# Altium schematic symbol library ATMEGA64M1_QFP.Schlib: 1 symbol
Pins are listed as number, name and electrical type; pins without a type are passive.

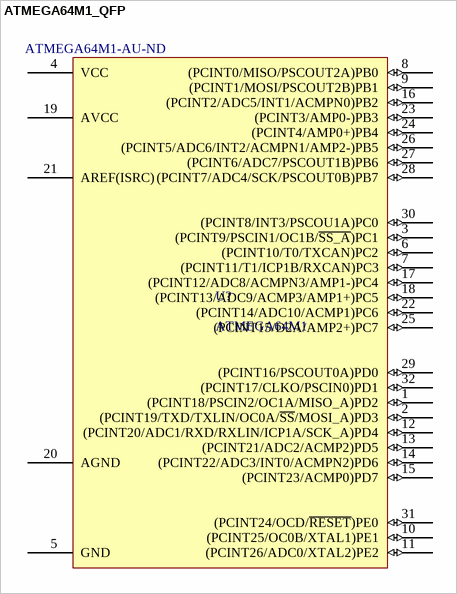
[diagram p0: symbol ATMEGA64M1_QFP]

## ATMEGA64M1_QFP
designator U?, comment ATMEGA64M1  Supplier Part Number 1: ATMEGA64M1-AU-ND
Atmel 8-bit AVR microcontroller.; Supplier 1: Digi-Key
footprint QFP80P900X900X120-32 (QFN + Pitch P + Body With X Body Length X Height - #Pins)
pins: 1 (PCINT18/PSCIN2/OC1A/MISO_A)PD2 (io), 2 (PCINT19/TXD/TXLIN/OC0A/~{SS}/MOSI_A)PD3 (io), 3 (PCINT9/PSCIN1/OC1B/~{SS_A})PC1 (io), 4 VCC (power), 5 GND (power), 6 (PCINT10/T0/TXCAN)PC2 (io), 7 (PCINT11/T1/ICP1B/RXCAN)PC3 (io), 8 (PCINT0/MISO/PSCOUT2A)PB0 (io), 9 (PCINT1/MOSI/PSCOUT2B)PB1 (io), 10 (PCINT25/OC0B/XTAL1)PE1 (io), 11 (PCINT26/ADC0/XTAL2)PE2 (io), 12 (PCINT20/ADC1/RXD/RXLIN/ICP1A/SCK_A)PD4 (io), 13 (PCINT21/ADC2/ACMP2)PD5 (io), 14 (PCINT22/ADC3/INT0/ACMPN2)PD6 (io), 15 (PCINT23/ACMP0)PD7 (io), 16 (PCINT2/ADC5/INT1/ACMPN0)PB2 (io), 17 (PCINT12/ADC8/ACMPN3/AMP1-)PC4 (io), 18 (PCINT13/ADC9/ACMP3/AMP1+)PC5 (io), 19 AVCC (power), 20 AGND (power), 21 AREF(ISRC) (power), 22 (PCINT14/ADC10/ACMP1)PC6 (io), 23 (PCINT3/AMP0-)PB3 (io), 24 (PCINT4/AMP0+)PB4 (io), 25 (PCINT15/D2A/AMP2+)PC7 (io), 26 (PCINT5/ADC6/INT2/ACMPN1/AMP2-)PB5 (io), 27 (PCINT6/ADC7/PSCOUT1B)PB6 (io), 28 (PCINT7/ADC4/SCK/PSCOUT0B)PB7 (io), 29 (PCINT16/PSCOUT0A)PD0 (io), 30 (PCINT8/INT3/PSCOU1A)PC0 (io), 31 (PCINT24/OCD/~{RESET})PE0 (io), 32 (PCINT17/CLKO/PSCIN0)PD1 (io)